# Altium schematic symbol library G5Q.SchLib: 1 symbol
Pins are listed as number, name and electrical type; pins without a type are passive.

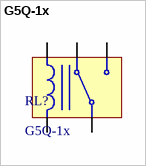
[diagram p0: symbol G5Q-1x]

## G5Q-1x
designator RL?
Power Relay with 1-pole 10A Switching Capacity.
footprint G5Q-1x (Power Relay with 1-pole 10A Switching Capacity.)
pins: 1, 2, 3, 4, 5